# EAGLE library part M3885X(80PIN) (library renesas_mcu)
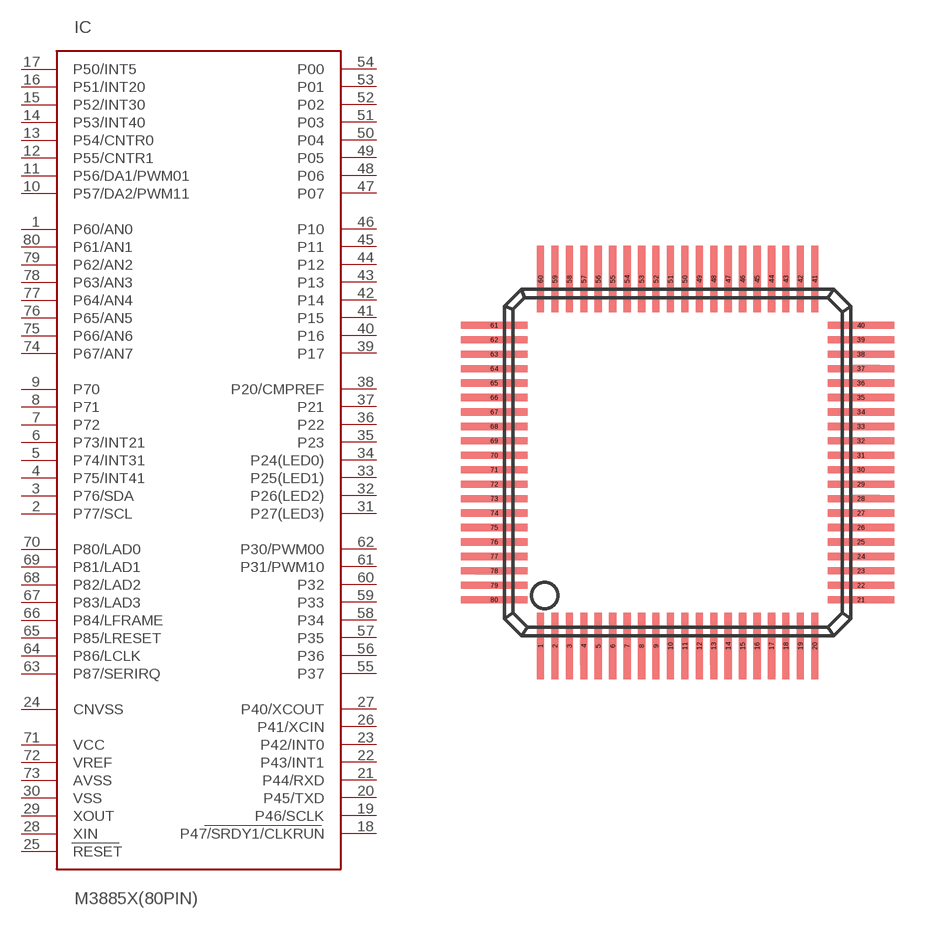
[diagram p75: symbol with the pads of 80P6Q-A; footprint 80P6Q-A]

Designator prefix IC

## M3885X(80PIN)HP  [80P6Q-A]
1  P60/AN0
2  P77/SCL
3  P76/SDA
4  P75/INT41
5  P74/INT31
6  P73/INT21
7  P72
8  P71
9  P70
10  P57/DA2/PWM11
11  P56/DA1/PWM01
12  P55/CNTR1
13  P54/CNTR0
14  P53/INT40
15  P52/INT30
16  P51/INT20
17  P50/INT5
18  P47/SRDY1/CLKRUN
19  P46/SCLK
20  P45/TXD
21  P44/RXD
22  P43/INT1
23  P42/INT0
24  CNVSS
25  RESET
26  P41/XCIN
27  P40/XCOUT
28  XIN
29  XOUT
30  VSS
31  P27(LED3)
32  P26(LED2)
33  P25(LED1)
34  P24(LED0)
35  P23
36  P22
37  P21
38  P20/CMPREF
39  P17
40  P16
41  P15
42  P14
43  P13
44  P12
45  P11
46  P10
47  P07
48  P06
49  P05
50  P04
51  P03
52  P02
53  P01
54  P00
55  P37
56  P36
57  P35
58  P34
59  P33
60  P32
61  P31/PWM10
62  P30/PWM00
63  P87/SERIRQ
64  P86/LCLK
65  P85/LRESET
66  P84/LFRAME
67  P83/LAD3
68  P82/LAD2
69  P81/LAD1
70  P80/LAD0
71  VCC
72  VREF
73  AVSS
74  P67/AN7
75  P66/AN6
76  P65/AN5
77  P64/AN4
78  P63/AN3
79  P62/AN2
80  P61/AN1

## Footprint 80P6Q-A (pad centres in mm)
smd 0.25 x 2.3: 1 -4.75,-6.35; 2 -4.25,-6.35; 3 -3.75,-6.35; 4 -3.25,-6.35; 5 -2.75,-6.35; 6 -2.25,-6.35; 7 -1.75,-6.35; 8 -1.25,-6.35; 9 -0.75,-6.35; 10 -0.25,-6.35; 11 0.25,-6.35; 12 0.75,-6.35; 13 1.25,-6.35; 14 1.75,-6.35; 15 2.25,-6.35; 16 2.75,-6.35; 17 3.25,-6.35; 18 3.75,-6.35; 19 4.25,-6.35; 20 4.75,-6.35; 41 4.75,6.35; 42 4.25,6.35; 43 3.75,6.35; 44 3.25,6.35; 45 2.75,6.35; 46 2.25,6.35; 47 1.75,6.35; 48 1.25,6.35; 49 0.75,6.35; 50 0.25,6.35; 51 -0.25,6.35; 52 -0.75,6.35; 53 -1.25,6.35; 54 -1.75,6.35; 55 -2.25,6.35; 56 -2.75,6.35; 57 -3.25,6.35; 58 -3.75,6.35; 59 -4.25,6.35; 60 -4.75,6.35
smd 2.3 x 0.25: 21 6.35,-4.75; 22 6.35,-4.25; 23 6.35,-3.75; 24 6.35,-3.25; 25 6.35,-2.75; 26 6.35,-2.25; 27 6.35,-1.75; 28 6.35,-1.25; 29 6.35,-0.75; 30 6.35,-0.25; 31 6.35,0.25; 32 6.35,0.75; 33 6.35,1.25; 34 6.35,1.75; 35 6.35,2.25; 36 6.35,2.75; 37 6.35,3.25; 38 6.35,3.75; 39 6.35,4.25; 40 6.35,4.75; 61 -6.35,4.75; 62 -6.35,4.25; 63 -6.35,3.75; 64 -6.35,3.25; 65 -6.35,2.75; 66 -6.35,2.25; 67 -6.35,1.75; 68 -6.35,1.25; 69 -6.35,0.75; 70 -6.35,0.25; 71 -6.35,-0.25; 72 -6.35,-0.75; 73 -6.35,-1.25; 74 -6.35,-1.75; 75 -6.35,-2.25; 76 -6.35,-2.75; 77 -6.35,-3.25; 78 -6.35,-3.75; 79 -6.35,-4.25; 80 -6.35,-4.75